# EAGLE library part MTCH6301 (library Microchip)
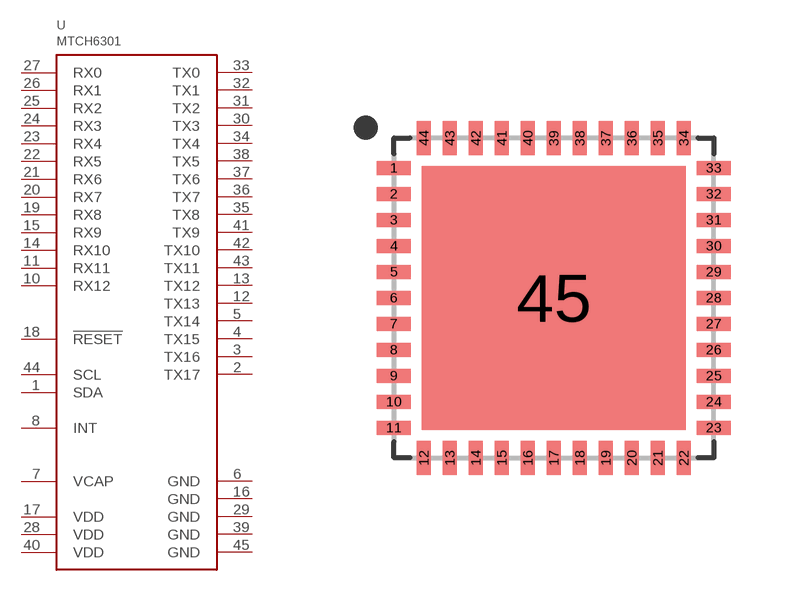
[diagram p29: symbol with the pads of QFN44; footprint QFN44]

Designator prefix U

## MTCH6301  [QFN44]
1  SDA
2  TX17
3  TX16
4  TX15
5  TX14
6  GND
7  VCAP
8  INT
10  RX12
11  RX11
12  TX13
13  TX12
14  RX10
15  RX9
16  GND
17  VDD
18  !RESET
19  RX8
20  RX7
21  RX6
22  RX5
23  RX4
24  RX3
25  RX2
26  RX1
27  RX0
28  VDD
29  GND
30  TX3
31  TX2
32  TX1
33  TX0
34  TX4
35  TX8
36  TX7
37  TX6
38  TX5
39  GND
40  VDD
41  TX9
42  TX10
43  TX11
44  SCL
45  GND

## Footprint QFN44 (pad centres in mm)
smd 0.85 x 0.35: 1 -4,3.25; 2 -4,2.6; 3 -4,1.95; 4 -4,1.3; 5 -4,0.65; 6 -4,0; 7 -4,-0.65; 8 -4,-1.3; 9 -4,-1.95; 10 -4,-2.6; 11 -4,-3.25; 23 4,-3.25; 24 4,-2.6; 25 4,-1.95; 26 4,-1.3; 27 4,-0.65; 28 4,0; 29 4,0.65; 30 4,1.3; 31 4,1.95; 32 4,2.6; 33 4,3.25
smd 0.35 x 0.85: 12 -3.25,-4; 13 -2.6,-4; 14 -1.95,-4; 15 -1.3,-4; 16 -0.65,-4; 17 0,-4; 18 0.65,-4; 19 1.3,-4; 20 1.95,-4; 21 2.6,-4; 22 3.25,-4; 34 3.25,4; 35 2.6,4; 36 1.95,4; 37 1.3,4; 38 0.65,4; 39 0,4; 40 -0.65,4; 41 -1.3,4; 42 -1.95,4; 43 -2.6,4; 44 -3.25,4
smd 6.6 x 6.6: 45 0,0